# Altium footprint library Connector_PinHeader_1.00mm.PcbLib: 278 footprints (part 18 of 18)
Each footprint in its own frame and in the unit in brackets; x right, y up, seen from the top. Pads: shape width x height; smd on the part's side, far side on the other; paste and mask are expansions set on the pad; w line width, h text height; cw(c..) or ccw(c..) is an arc to the next point about the centre after c.
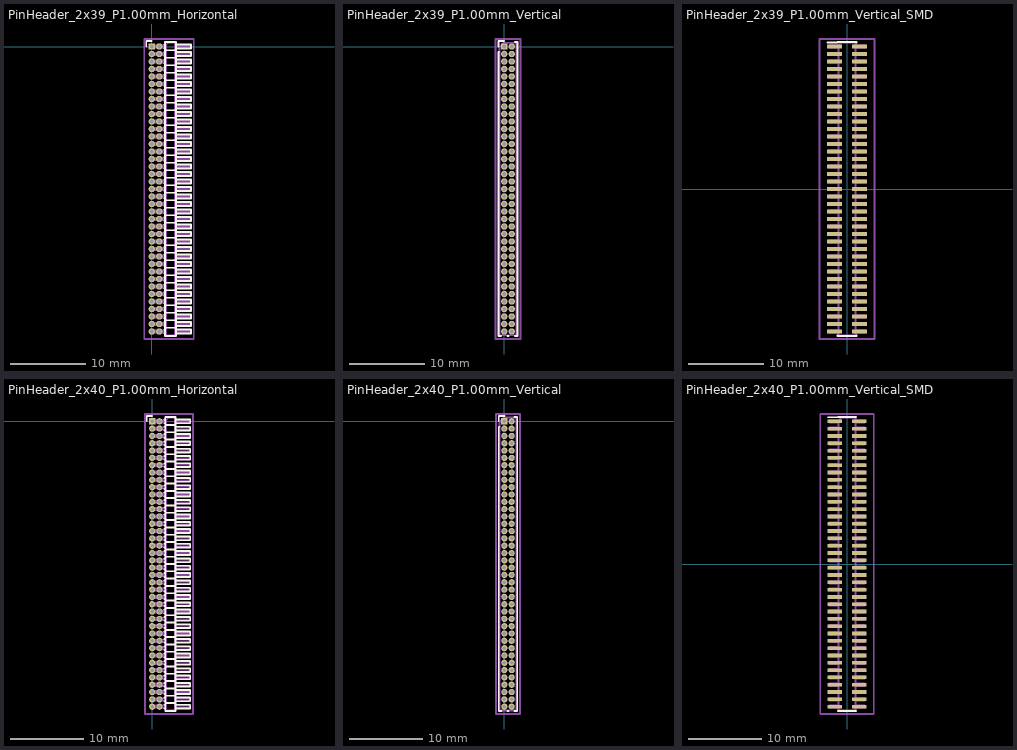
[diagram p17: the footprints below, top view; thin cyan lines are the x and y axes]

## PinHeader_2x39_P1.00mm_Horizontal [mm]
pads (78):
  rect 0.85x0.85 hole 0.5: 1(0,0)
  round 0.85 hole 0.5: 2(1,0) 3(0,-1) 4(1,-1) 5(0,-2) 6(1,-2) 7(0,-3) 8(1,-3) 9(0,-4) 10(1,-4) 11(0,-5) 12(1,-5) 13(0,-6) 14(1,-6) 15(0,-7) 16(1,-7) 17(0,-8) 18(1,-8) 19(0,-9) 20(1,-9) 21(0,-10) 22(1,-10) 23(0,-11) 24(1,-11) 25(0,-12) 26(1,-12) 27(0,-13) 28(1,-13) 29(0,-14) 30(1,-14) 31(0,-15) 32(1,-15) 33(0,-16) 34(1,-16) 35(0,-17) 36(1,-17) 37(0,-18) 38(1,-18) 39(0,-19) 40(1,-19) 41(0,-20) 42(1,-20) 43(0,-21) 44(1,-21) 45(0,-22) 46(1,-22) 47(0,-23) 48(1,-23) 49(0,-24) 50(1,-24) 51(0,-25) 52(1,-25) 53(0,-26) 54(1,-26) 55(0,-27) 56(1,-27) 57(0,-28) 58(1,-28) 59(0,-29) 60(1,-29) 61(0,-30) 62(1,-30) 63(0,-31) 64(1,-31) 65(0,-32) 66(1,-32) 67(0,-33) 68(1,-33) 69(0,-34) 70(1,-34) 71(0,-35) 72(1,-35) 73(0,-36) 74(1,-36) 75(0,-37) 76(1,-37) 77(0,-38) 78(1,-38)
F.SilkS:
  drawing of 240 lines, arcs and shapes, not listed
Top Assembly:
  drawing of 239 lines, arcs and shapes, not listed
  text "'.Designator'" at 3.105,-21.914 h0.72
Top Courtyard:
  lines w0.254: -1,-39 5.6,-39 5.6,1 -1,1 -1,-39
Top Designator:
  text ".Designator" at -5.318,-19.508 h1.52

## PinHeader_2x39_P1.00mm_Vertical [mm]
pads (78):
  rect 0.85x0.85 hole 0.5: 1(0,0)
  round 0.85 hole 0.5: 2(1,0) 3(0,-1) 4(1,-1) 5(0,-2) 6(1,-2) 7(0,-3) 8(1,-3) 9(0,-4) 10(1,-4) 11(0,-5) 12(1,-5) 13(0,-6) 14(1,-6) 15(0,-7) 16(1,-7) 17(0,-8) 18(1,-8) 19(0,-9) 20(1,-9) 21(0,-10) 22(1,-10) 23(0,-11) 24(1,-11) 25(0,-12) 26(1,-12) 27(0,-13) 28(1,-13) 29(0,-14) 30(1,-14) 31(0,-15) 32(1,-15) 33(0,-16) 34(1,-16) 35(0,-17) 36(1,-17) 37(0,-18) 38(1,-18) 39(0,-19) 40(1,-19) 41(0,-20) 42(1,-20) 43(0,-21) 44(1,-21) 45(0,-22) 46(1,-22) 47(0,-23) 48(1,-23) 49(0,-24) 50(1,-24) 51(0,-25) 52(1,-25) 53(0,-26) 54(1,-26) 55(0,-27) 56(1,-27) 57(0,-28) 58(1,-28) 59(0,-29) 60(1,-29) 61(0,-30) 62(1,-30) 63(0,-31) 64(1,-31) 65(0,-32) 66(1,-32) 67(0,-33) 68(1,-33) 69(0,-34) 70(1,-34) 71(0,-35) 72(1,-35) 73(0,-36) 74(1,-36) 75(0,-37) 76(1,-37) 77(0,-38) 78(1,-38)
F.SilkS:
  lines w0.254: -0.76,0 -0.76,0.735 0,0.735 ; -0.686,-0.735 -0.76,-0.735 -0.76,-38.61 -0.41,-38.61 ; 0.41,-38.61 0.59,-38.61 ; 1.41,-38.61 1.76,-38.61 1.76,0.61 1.41,0.61
Top Assembly:
  lines w0.254: -0.65,-38.5 1.65,-38.5 1.65,0.5 -0.075,0.5 -0.65,-0.075 -0.65,-38.5
  text "'.Designator'" at 1.34,-23.047 h1
Top Courtyard:
  lines w0.254: -1.15,-39 2.15,-39 2.15,1 -1.15,1 -1.15,-39
Top Designator:
  text ".Designator" at -7.118,-19.508 h1.52

## PinHeader_2x39_P1.00mm_Vertical_SMD [mm]
pads (78):
  rect 2x0.5 smd: 1(-1.65,19) 2(1.65,19) 3(-1.65,18) 4(1.65,18) 5(-1.65,17) 6(1.65,17) 7(-1.65,16) 8(1.65,16) 9(-1.65,15) 10(1.65,15) 11(-1.65,14) 12(1.65,14) 13(-1.65,13) 14(1.65,13) 15(-1.65,12) 16(1.65,12) 17(-1.65,11) 18(1.65,11) 19(-1.65,10) 20(1.65,10) 21(-1.65,9) 22(1.65,9) 23(-1.65,8) 24(1.65,8) 25(-1.65,7) 26(1.65,7) 27(-1.65,6) 28(1.65,6) 29(-1.65,5) 30(1.65,5) 31(-1.65,4) 32(1.65,4) 33(-1.65,3) 34(1.65,3) 35(-1.65,2) 36(1.65,2) 37(-1.65,1) 38(1.65,1) 39(-1.65,0) 40(1.65,0) 41(-1.65,-1) 42(1.65,-1) 43(-1.65,-2) 44(1.65,-2) 45(-1.65,-3) 46(1.65,-3) 47(-1.65,-4) 48(1.65,-4) 49(-1.65,-5) 50(1.65,-5) 51(-1.65,-6) 52(1.65,-6) 53(-1.65,-7) 54(1.65,-7) 55(-1.65,-8) 56(1.65,-8) 57(-1.65,-9) 58(1.65,-9) 59(-1.65,-10) 60(1.65,-10) 61(-1.65,-11) 62(1.65,-11) 63(-1.65,-12) 64(1.65,-12) 65(-1.65,-13) 66(1.65,-13) 67(-1.65,-14) 68(1.65,-14) 69(-1.65,-15) 70(1.65,-15) 71(-1.65,-16) 72(1.65,-16) 73(-1.65,-17) 74(1.65,-17) 75(-1.65,-18) 76(1.65,-18) 77(-1.65,-19) 78(1.65,-19)
F.SilkS:
  lines w0.254: -2.59,19.56 -1.26,19.56 -1.26,19.61 1.26,19.61 1.26,19.56 ; -1.26,-19.56 -1.26,-19.61 1.26,-19.61 1.26,-19.56
Top Assembly:
  drawing of 239 lines, arcs and shapes, not listed
  text "'.Designator'" at 0.84,-4.047 h1
Top Courtyard:
  lines w0.254: -3.65,-20 3.65,-20 3.65,20 -3.65,20 -3.65,-20
Top Designator:
  text ".Designator" at -7.618,-0.508 h1.52

## PinHeader_2x40_P1.00mm_Horizontal [mm]
pads (80):
  rect 0.85x0.85 hole 0.5: 1(0,0)
  round 0.85 hole 0.5: 2(1,0) 3(0,-1) 4(1,-1) 5(0,-2) 6(1,-2) 7(0,-3) 8(1,-3) 9(0,-4) 10(1,-4) 11(0,-5) 12(1,-5) 13(0,-6) 14(1,-6) 15(0,-7) 16(1,-7) 17(0,-8) 18(1,-8) 19(0,-9) 20(1,-9) 21(0,-10) 22(1,-10) 23(0,-11) 24(1,-11) 25(0,-12) 26(1,-12) 27(0,-13) 28(1,-13) 29(0,-14) 30(1,-14) 31(0,-15) 32(1,-15) 33(0,-16) 34(1,-16) 35(0,-17) 36(1,-17) 37(0,-18) 38(1,-18) 39(0,-19) 40(1,-19) 41(0,-20) 42(1,-20) 43(0,-21) 44(1,-21) 45(0,-22) 46(1,-22) 47(0,-23) 48(1,-23) 49(0,-24) 50(1,-24) 51(0,-25) 52(1,-25) 53(0,-26) 54(1,-26) 55(0,-27) 56(1,-27) 57(0,-28) 58(1,-28) 59(0,-29) 60(1,-29) 61(0,-30) 62(1,-30) 63(0,-31) 64(1,-31) 65(0,-32) 66(1,-32) 67(0,-33) 68(1,-33) 69(0,-34) 70(1,-34) 71(0,-35) 72(1,-35) 73(0,-36) 74(1,-36) 75(0,-37) 76(1,-37) 77(0,-38) 78(1,-38) 79(0,-39) 80(1,-39)
F.SilkS:
  drawing of 246 lines, arcs and shapes, not listed
Top Assembly:
  drawing of 245 lines, arcs and shapes, not listed
  text "'.Designator'" at 3.105,-22.414 h0.72
Top Courtyard:
  lines w0.254: -1,-40 5.6,-40 5.6,1 -1,1 -1,-40
Top Designator:
  text ".Designator" at -5.318,-20.008 h1.52

## PinHeader_2x40_P1.00mm_Vertical [mm]
pads (80):
  rect 0.85x0.85 hole 0.5: 1(0,0)
  round 0.85 hole 0.5: 2(1,0) 3(0,-1) 4(1,-1) 5(0,-2) 6(1,-2) 7(0,-3) 8(1,-3) 9(0,-4) 10(1,-4) 11(0,-5) 12(1,-5) 13(0,-6) 14(1,-6) 15(0,-7) 16(1,-7) 17(0,-8) 18(1,-8) 19(0,-9) 20(1,-9) 21(0,-10) 22(1,-10) 23(0,-11) 24(1,-11) 25(0,-12) 26(1,-12) 27(0,-13) 28(1,-13) 29(0,-14) 30(1,-14) 31(0,-15) 32(1,-15) 33(0,-16) 34(1,-16) 35(0,-17) 36(1,-17) 37(0,-18) 38(1,-18) 39(0,-19) 40(1,-19) 41(0,-20) 42(1,-20) 43(0,-21) 44(1,-21) 45(0,-22) 46(1,-22) 47(0,-23) 48(1,-23) 49(0,-24) 50(1,-24) 51(0,-25) 52(1,-25) 53(0,-26) 54(1,-26) 55(0,-27) 56(1,-27) 57(0,-28) 58(1,-28) 59(0,-29) 60(1,-29) 61(0,-30) 62(1,-30) 63(0,-31) 64(1,-31) 65(0,-32) 66(1,-32) 67(0,-33) 68(1,-33) 69(0,-34) 70(1,-34) 71(0,-35) 72(1,-35) 73(0,-36) 74(1,-36) 75(0,-37) 76(1,-37) 77(0,-38) 78(1,-38) 79(0,-39) 80(1,-39)
F.SilkS:
  lines w0.254: -0.76,0 -0.76,0.735 0,0.735 ; -0.686,-0.735 -0.76,-0.735 -0.76,-39.61 -0.41,-39.61 ; 0.41,-39.61 0.59,-39.61 ; 1.41,-39.61 1.76,-39.61 1.76,0.61 1.41,0.61
Top Assembly:
  lines w0.254: -0.65,-39.5 1.65,-39.5 1.65,0.5 -0.075,0.5 -0.65,-0.075 -0.65,-39.5
  text "'.Designator'" at 1.34,-23.547 h1
Top Courtyard:
  lines w0.254: -1.15,-40 2.15,-40 2.15,1 -1.15,1 -1.15,-40
Top Designator:
  text ".Designator" at -7.118,-20.008 h1.52

## PinHeader_2x40_P1.00mm_Vertical_SMD [mm]
pads (80):
  rect 2x0.5 smd: 1(-1.65,19.5) 2(1.65,19.5) 3(-1.65,18.5) 4(1.65,18.5) 5(-1.65,17.5) 6(1.65,17.5) 7(-1.65,16.5) 8(1.65,16.5) 9(-1.65,15.5) 10(1.65,15.5) 11(-1.65,14.5) 12(1.65,14.5) 13(-1.65,13.5) 14(1.65,13.5) 15(-1.65,12.5) 16(1.65,12.5) 17(-1.65,11.5) 18(1.65,11.5) 19(-1.65,10.5) 20(1.65,10.5) 21(-1.65,9.5) 22(1.65,9.5) 23(-1.65,8.5) 24(1.65,8.5) 25(-1.65,7.5) 26(1.65,7.5) 27(-1.65,6.5) 28(1.65,6.5) 29(-1.65,5.5) 30(1.65,5.5) 31(-1.65,4.5) 32(1.65,4.5) 33(-1.65,3.5) 34(1.65,3.5) 35(-1.65,2.5) 36(1.65,2.5) 37(-1.65,1.5) 38(1.65,1.5) 39(-1.65,0.5) 40(1.65,0.5) 41(-1.65,-0.5) 42(1.65,-0.5) 43(-1.65,-1.5) 44(1.65,-1.5) 45(-1.65,-2.5) 46(1.65,-2.5) 47(-1.65,-3.5) 48(1.65,-3.5) 49(-1.65,-4.5) 50(1.65,-4.5) 51(-1.65,-5.5) 52(1.65,-5.5) 53(-1.65,-6.5) 54(1.65,-6.5) 55(-1.65,-7.5) 56(1.65,-7.5) 57(-1.65,-8.5) 58(1.65,-8.5) 59(-1.65,-9.5) 60(1.65,-9.5) 61(-1.65,-10.5) 62(1.65,-10.5) 63(-1.65,-11.5) 64(1.65,-11.5) 65(-1.65,-12.5) 66(1.65,-12.5) 67(-1.65,-13.5) 68(1.65,-13.5) 69(-1.65,-14.5) 70(1.65,-14.5) 71(-1.65,-15.5) 72(1.65,-15.5) 73(-1.65,-16.5) 74(1.65,-16.5) 75(-1.65,-17.5) 76(1.65,-17.5) 77(-1.65,-18.5) 78(1.65,-18.5) 79(-1.65,-19.5) 80(1.65,-19.5)
F.SilkS:
  lines w0.254: -2.59,20.06 -1.26,20.06 -1.26,20.11 1.26,20.11 1.26,20.06 ; -1.26,-20.06 -1.26,-20.11 1.26,-20.11 1.26,-20.06
Top Assembly:
  drawing of 245 lines, arcs and shapes, not listed
  text "'.Designator'" at 0.84,-4.047 h1
Top Courtyard:
  lines w0.254: -3.65,-20.5 3.65,-20.5 3.65,20.5 -3.65,20.5 -3.65,-20.5
Top Designator:
  text ".Designator" at -7.618,-0.508 h1.52